# EAGLE library part PAPILIO_WING8 (library xess)
PIN HEADER
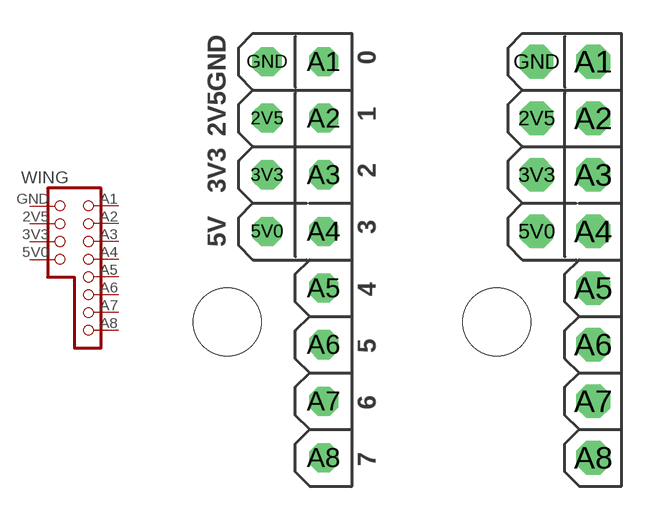
[diagram p139: symbol with the pads of PAPILIO_WING8; footprints PAPILIO_WING8, PAPILIO_WING8_HEADER]

Designator prefix WING

## PAPILIO_WING8SOCKET  [PAPILIO_WING8]
2V5  2V5  pas
3V3  3V3  pas
5V0  5V  pas
A1  A1  pas
A2  A2  pas
A3  A3  pas
A4  A4  pas
A5  A5  pas
A6  A6  pas
A7  A7  pas
A8  A8  pas
GND  GND  pas

## PAPILIO_WING8HEADER  [PAPILIO_WING8_HEADER]
Pads as for PAPILIO_WING8

## Footprint PAPILIO_WING8 (pad centres in mm)
drill 0.8 octagon: 2V5 -2.54,-2.54; 3V3 -2.54,-5.08; 5V0 -2.54,-7.62; A1 0,0; A2 0,-2.54; A3 0,-5.08; A4 0,-7.62; A5 0,-10.16; A6 0,-12.7; A7 0,-15.24; A8 0,-17.78; GND -2.54,0
hole 3.048 at -4.318,-11.684

## Footprint PAPILIO_WING8_HEADER (pad centres in mm)
drill 1 octagon: 2V5 -2.54,-2.54; 3V3 -2.54,-5.08; 5V0 -2.54,-7.62; A1 0,0; A2 0,-2.54; A3 0,-5.08; A4 0,-7.62; A5 0,-10.16; A6 0,-12.7; A7 0,-15.24; A8 0,-17.78; GND -2.54,0
hole 3.048 at -4.318,-11.684